# Altium integrated library Diodes - TVS.IntLib: 5379 symbols (part 120 of 122)
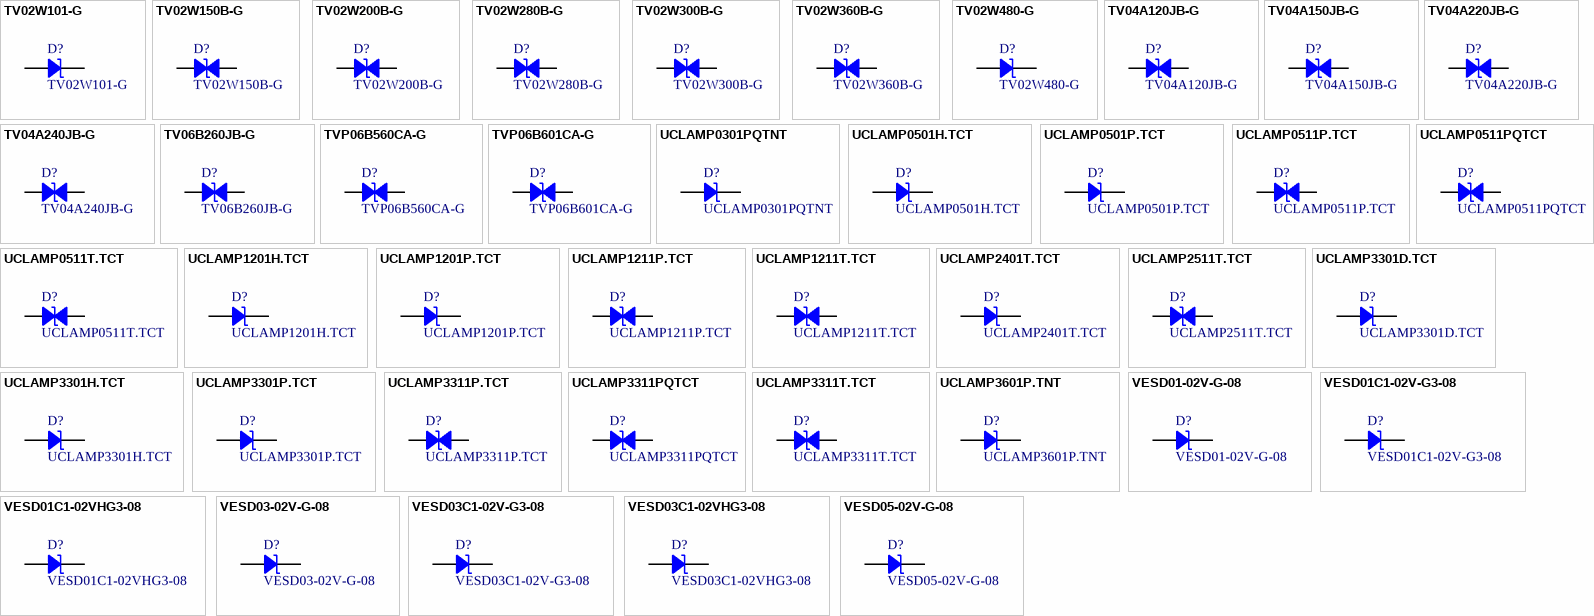
[diagram p253: symbols TV02W101-G to VESD05-02V-G-08]

## TV02W480-G
designator D?
TVS DIODE 48V 77.4V SOD123; Manufacturer: Comchip Technology; Current - Peak Pulse (10/1000µs): 2.58A; Power Line Protection: No; Power - Peak Pulse: 200W; Type: Zener; Unidirectional Channels: 1; Voltage - Breakdown (Min): 53.3V; Part Number: TV02W480-G; Applications: General Purpose; ComponentLink1Description: Datasheet; ComponentLink1URL: http://www.comchiptech.com/admin/files/product/TV02W-G series RevE.pdf; ComponentLink2Description: DigiKey Link; ComponentLink2URL: http://digikey.com/product-detail/en/comchip-technology/TV02W480-G/641-1985-1-ND/9598480; LastUpdated: 9/2/2020 1:28:32 AM; Lifecycle Status: Active; Minimum Order: 1; Mounting Type: Surface Mount; Operating Temperature: -55°C ~ 150°C (TJ); Package / Case: SOD-123; Packaging: TapeAndReel; PartId: 10022; Part Status: Active; Price: 0.10; Series: -; Supplier 1: DigiKey; Supplier Part Number 1: 641-1985-1-ND; Supplier Device Package: SOD-123; Voltage - Clamping (Max) @ Ipp: 77.4V; Voltage - Reverse Standoff (Typ): 48V
footprint SOD-123
pins: 1, 2

## TV04A120JB-G
designator D?
TVS DIODE 12V 19.9V SMA; Manufacturer: Comchip Technology; Bidirectional Channels: 1; Current - Peak Pulse (10/1000µs): 20.1A; Power Line Protection: No; Power - Peak Pulse: 400W; Type: Zener; Voltage - Breakdown (Min): 13.3V; Part Number: TV04A120JB-G; Applications: General Purpose; ComponentLink1Description: Datasheet; ComponentLink1URL: http://www.comchiptech.com/admin/files/product/TV04A-G Series RevG.pdf; ComponentLink2Description: DigiKey Link; ComponentLink2URL: http://digikey.com/product-detail/en/comchip-technology/TV04A120JB-G/641-1235-1-ND/1678653; LastUpdated: 9/2/2020 1:27:52 AM; Lifecycle Status: Active; Minimum Order: 1; Mounting Type: Surface Mount; Operating Temperature: -55°C ~ 150°C (TJ); Package / Case: DO-214AC, SMA; Packaging: TapeAndReel; PartId: 7474; Part Status: Active; Price: 0.09; Series: -; Supplier 1: DigiKey; Supplier Part Number 1: 641-1235-1-ND; Supplier Device Package: SMA (DO-214AC); Voltage - Clamping (Max) @ Ipp: 19.9V; Voltage - Reverse Standoff (Typ): 12V
footprint DO214AC SMA
pins: 1, 2

## TV04A150JB-G
designator D?
TVS DIODE 15V 24.4V SMA; Manufacturer: Comchip Technology; Bidirectional Channels: 1; Current - Peak Pulse (10/1000µs): 16.39A; Power Line Protection: No; Power - Peak Pulse: 400W; Type: Zener; Voltage - Breakdown (Min): 16.7V; Part Number: TV04A150JB-G; Applications: General Purpose; ComponentLink1Description: Datasheet; ComponentLink1URL: http://www.comchiptech.com/admin/files/product/TV04A-G Series RevG.pdf; ComponentLink2Description: DigiKey Link; ComponentLink2URL: http://digikey.com/product-detail/en/comchip-technology/TV04A150JB-G/641-1465-1-ND/3511550; LastUpdated: 9/2/2020 1:27:52 AM; Lifecycle Status: Active; Minimum Order: 1; Mounting Type: Surface Mount; Operating Temperature: -55°C ~ 150°C (TJ); Package / Case: DO-214AC, SMA; Packaging: TapeAndReel; PartId: 7449; Part Status: Active; Price: 0.10; Series: -; Supplier 1: DigiKey; Supplier Part Number 1: 641-1465-1-ND; Supplier Device Package: SMA (DO-214AC); Voltage - Clamping (Max) @ Ipp: 24.4V; Voltage - Reverse Standoff (Typ): 15V
footprint DO214AC SMA
pins: 1, 2

## TV04A220JB-G
designator D?
TVS DIODE 22V 35.5V SMA; Manufacturer: Comchip Technology; Bidirectional Channels: 1; Current - Peak Pulse (10/1000µs): 11.27A; Power Line Protection: No; Power - Peak Pulse: 400W; Type: Zener; Voltage - Breakdown (Min): 24.4V; Part Number: TV04A220JB-G; Applications: General Purpose; ComponentLink1Description: Datasheet; ComponentLink1URL: http://www.comchiptech.com/admin/files/product/TV04A-G Series RevG.pdf; ComponentLink2Description: DigiKey Link; ComponentLink2URL: http://digikey.com/product-detail/en/comchip-technology/TV04A220JB-G/641-1239-1-ND/1678657; LastUpdated: 9/2/2020 1:27:55 AM; Lifecycle Status: Active; Minimum Order: 1; Mounting Type: Surface Mount; Operating Temperature: -55°C ~ 150°C (TJ); Package / Case: DO-214AC, SMA; Packaging: TapeAndReel; PartId: 7804; Part Status: Active; Price: 0.09; Series: -; Supplier 1: DigiKey; Supplier Part Number 1: 641-1239-1-ND; Supplier Device Package: SMA (DO-214AC); Voltage - Clamping (Max) @ Ipp: 35.5V; Voltage - Reverse Standoff (Typ): 22V
footprint DO214AC SMA
pins: 1, 2

## TV04A240JB-G
designator D?
TVS DIODE 24V 38.9V SMA; Manufacturer: Comchip Technology; Bidirectional Channels: 1; Current - Peak Pulse (10/1000µs): 10.28A; Power Line Protection: No; Power - Peak Pulse: 400W; Type: Zener; Voltage - Breakdown (Min): 26.7V; Part Number: TV04A240JB-G; Applications: General Purpose; ComponentLink1Description: Datasheet; ComponentLink1URL: http://www.comchiptech.com/admin/files/product/TV04A-G Series RevG.pdf; ComponentLink2Description: DigiKey Link; ComponentLink2URL: http://digikey.com/product-detail/en/comchip-technology/TV04A240JB-G/641-1240-1-ND/1678658; LastUpdated: 9/2/2020 1:27:55 AM; Lifecycle Status: Active; Minimum Order: 1; Mounting Type: Surface Mount; Operating Temperature: -55°C ~ 150°C (TJ); Package / Case: DO-214AC, SMA; Packaging: TapeAndReel; PartId: 7772; Part Status: Active; Price: 0.10; Series: -; Supplier 1: DigiKey; Supplier Part Number 1: 641-1240-1-ND; Supplier Device Package: SMA (DO-214AC); Voltage - Clamping (Max) @ Ipp: 38.9V; Voltage - Reverse Standoff (Typ): 24V
footprint DO214AC SMA
pins: 1, 2

## TV06B260JB-G
designator D?
TVS DIODE 26V 42.1V SMB; Manufacturer: Comchip Technology; Bidirectional Channels: 1; Current - Peak Pulse (10/1000µs): 14.25A; Power Line Protection: No; Power - Peak Pulse: 600W; Type: Zener; Voltage - Breakdown (Min): 28.9V; Part Number: TV06B260JB-G; Applications: General Purpose; ComponentLink1Description: Datasheet; ComponentLink1URL: http://www.comchiptech.com/admin/files/product/TV06B-G Series RevG.pdf; ComponentLink2Description: DigiKey Link; ComponentLink2URL: http://digikey.com/product-detail/en/comchip-technology/TV06B260JB-G/641-1251-1-ND/1678669; LastUpdated: 9/2/2020 1:28:15 AM; Lifecycle Status: Active; Minimum Order: 1; Mounting Type: Surface Mount; Package / Case: DO-214AA, SMB; Packaging: TapeAndReel; PartId: 8840; Part Status: Active; Price: 0.15; Series: -; Supplier 1: DigiKey; Supplier Part Number 1: 641-1251-1-ND; Supplier Device Package: DO-214AA (SMB); Voltage - Clamping (Max) @ Ipp: 42.1V; Voltage - Reverse Standoff (Typ): 26V
footprint DO214AA SMB
pins: 1, 2

## TVP06B560CA-G
designator D?
TVS DIODE SMC; Manufacturer: Comchip Technology; Bidirectional Channels: 1; Power Line Protection: No; Power - Peak Pulse: 600W; Type: Zener; Part Number: TVP06B560CA-G; Applications: General Purpose; ComponentLink1Description: Datasheet; ComponentLink1URL: http://www.comchiptech.com/admin/files/product/TVP06B-G Series RevC.pdf; ComponentLink2Description: DigiKey Link; ComponentLink2URL: http://digikey.com/product-detail/en/comchip-technology/TVP06B560CA-G/641-1863-1-ND/7062355; LastUpdated: 9/2/2020 1:28:20 AM; Lifecycle Status: Active; Minimum Order: 1; Mounting Type: Surface Mount; Operating Temperature: -55°C ~ 150°C (TJ); Package / Case: DO-214AA, SMB; Packaging: TapeAndReel; PartId: 9423; Part Status: Active; Price: 0.16; Series: -; Supplier 1: DigiKey; Supplier Part Number 1: 641-1863-1-ND; Supplier Device Package: DO-214AA (SMB)
footprint DO214AA SMB
pins: 1, 2

## TVP06B601CA-G
designator D?
TVS DIODE 513V 828V SMB; Manufacturer: Comchip Technology; Bidirectional Channels: 1; Current - Peak Pulse (10/1000µs): 720mA; Power Line Protection: No; Power - Peak Pulse: 600W; Type: Zener; Voltage - Breakdown (Min): 570V; Part Number: TVP06B601CA-G; Applications: General Purpose; ComponentLink1Description: Datasheet; ComponentLink1URL: http://www.comchiptech.com/admin/files/product/TVP06B-G Series RevC.pdf; ComponentLink2Description: DigiKey Link; ComponentLink2URL: http://digikey.com/product-detail/en/comchip-technology/TVP06B601CA-G/641-2009-1-ND/9598497; LastUpdated: 9/2/2020 1:28:18 AM; Lifecycle Status: Active; Minimum Order: 1; Mounting Type: Surface Mount; Operating Temperature: -55°C ~ 150°C (TJ); Package / Case: DO-214AA, SMB; Packaging: TapeAndReel; PartId: 9143; Part Status: Active; Price: 0.27; Series: -; Supplier 1: DigiKey; Supplier Part Number 1: 641-2009-1-ND; Supplier Device Package: DO-214AA (SMB); Voltage - Clamping (Max) @ Ipp: 828V; Voltage - Reverse Standoff (Typ): 513V
footprint DO214AA SMB
pins: 1, 2

## UCLAMP0301PQTNT
designator D?
TVS DIODE 3V 8V SLP1006P2; Manufacturer: Semtech Corporation; Capacitance @ Frequency: 25pF @ 1MHz; Current - Peak Pulse (10/1000µs): 5A (8/20µs); Power Line Protection: No; Power - Peak Pulse: 40W; Type: Zener; Unidirectional Channels: 1; Voltage - Breakdown (Min): 3.1V; Voltage - Reverse Standoff (Typ): 3V (Max); Part Number: UCLAMP0301PQTNT; Applications: Automotive; ComponentLink1Description: Datasheet; ComponentLink1URL: https://www.semtech.com/uploads/documents/uclamp0301pq.pdf; ComponentLink2Description: DigiKey Link; ComponentLink2URL: http://digikey.com/product-detail/en/semtech-corporation/UCLAMP0301PQTNT/UCLAMP0301PQTNTCT-ND/5321365; Device Package: 0402 (1006 Metric); LastUpdated: 9/2/2020 1:28:45 AM; Lifecycle Status: Active; Minimum Order: 1; Mounting Type: Surface Mount; Operating Temperature: -40°C ~ 85°C (TJ); Package / Case: 0402 (1006 Metric); Packaging: TapeAndReel; PartId: 10368; Part Status: Active; Price: 0.23; Series: Automotive, AEC-Q100, uClamp®; Supplier 1: DigiKey; Supplier Part Number 1: UCLAMP0301PQTNTCT-ND; Supplier Device Package: SLP1006P2; Voltage - Clamping (Max) @ Ipp: 8V
footprint 0402
pins: 1, 2

## UCLAMP0501H.TCT
designator D?
TVS DIODE 5V 12.5V SOD523; Manufacturer: Semtech Corporation; Capacitance @ Frequency: 160pF @ 1MHz; Current - Peak Pulse (10/1000µs): 16A (8/20µs); Power Line Protection: No; Power - Peak Pulse: 240W; Type: Zener; Unidirectional Channels: 1; Voltage - Breakdown (Min): 6V; Voltage - Reverse Standoff (Typ): 5V (Max); Part Number: UCLAMP0501H.TCT; Applications: General Purpose; ComponentLink1Description: Datasheet; ComponentLink1URL: https://www.semtech.com/uploads/documents/uclamp0501h.pdf; ComponentLink2Description: DigiKey Link; ComponentLink2URL: http://digikey.com/product-detail/en/semtech-corporation/UCLAMP0501H.TCT/UCLAMP0501HCT-ND/1000992; LastUpdated: 9/2/2020 1:28:24 AM; Lifecycle Status: Active; Minimum Order: 1; Mounting Type: Surface Mount; Operating Temperature: -55°C ~ 125°C (TJ); Package / Case: SC-79, SOD-523; Packaging: TapeAndReel; PartId: 9758; Part Status: Active; Price: 0.23; Series: uClamp®; Supplier 1: DigiKey; Supplier Part Number 1: UCLAMP0501HCT-ND; Supplier Device Package: SOD-523; Voltage - Clamping (Max) @ Ipp: 12.5V
footprint SOD523F
pins: 1, 2

## UCLAMP0501P.TCT
designator D?
TVS DIODE 5V 12.5V SLP1006P2; Manufacturer: Semtech Corporation; Capacitance @ Frequency: 160pF @ 1MHz; Current - Peak Pulse (10/1000µs): 16A (8/20µs); Power Line Protection: No; Power - Peak Pulse: 200W; Type: Zener; Unidirectional Channels: 1; Voltage - Breakdown (Min): 6V; Voltage - Reverse Standoff (Typ): 5V (Max); Part Number: UCLAMP0501P.TCT; Applications: General Purpose; ComponentLink1Description: Datasheet; ComponentLink1URL: https://www.semtech.com/uploads/documents/uclamp0501p.pdf; ComponentLink2Description: DigiKey Link; ComponentLink2URL: http://digikey.com/product-detail/en/semtech-corporation/UCLAMP0501P.TCT/UCLAMP0501P.TCTCT-ND/5113772; Device Package: 0402 (1006 Metric); LastUpdated: 9/2/2020 1:28:45 AM; Lifecycle Status: Active; Minimum Order: 1; Mounting Type: Surface Mount; Operating Temperature: -55°C ~ 125°C (TJ); Package / Case: 0402 (1006 Metric); Packaging: TapeAndReel; PartId: 10386; Part Status: Active; Price: 0.23; Series: uClamp®; Supplier 1: DigiKey; Supplier Part Number 1: UCLAMP0501P.TCTCT-ND; Supplier Device Package: SLP1006P2; Voltage - Clamping (Max) @ Ipp: 12.5V
footprint 0402
pins: 1, 2

## UCLAMP0511P.TCT
designator D?
TVS DIODE 5V 14V SLP1006P2; Manufacturer: Semtech Corporation; Bidirectional Channels: 1; Capacitance @ Frequency: 75pF @ 1MHz; Current - Peak Pulse (10/1000µs): 12A (8/20µs); Power Line Protection: No; Power - Peak Pulse: 170W; Type: Zener; Voltage - Breakdown (Min): 6V; Voltage - Reverse Standoff (Typ): 5V (Max); Part Number: UCLAMP0511P.TCT; Applications: General Purpose; ComponentLink1Description: Datasheet; ComponentLink1URL: https://www.semtech.com/uploads/documents/uclamp0511p.pdf; ComponentLink2Description: DigiKey Link; ComponentLink2URL: http://digikey.com/product-detail/en/semtech-corporation/UCLAMP0511P.TCT/UCLAMP0511PCT-ND/1834047; Device Package: 0402 (1006 Metric); LastUpdated: 9/2/2020 1:28:48 AM; Lifecycle Status: Active; Minimum Order: 1; Mounting Type: Surface Mount; Operating Temperature: -55°C ~ 125°C (TJ); Package / Case: 0402 (1006 Metric); Packaging: TapeAndReel; PartId: 10412; Part Status: Active; Price: 0.30; Series: uClamp®; Supplier 1: DigiKey; Supplier Part Number 1: UCLAMP0511PCT-ND; Supplier Device Package: SLP1006P2; Voltage - Clamping (Max) @ Ipp: 14V
footprint 0402
pins: 1, 2

## UCLAMP0511PQTCT
designator D?
TVS DIODE 5V 14V SLP1006P2; Manufacturer: Semtech Corporation; Bidirectional Channels: 1; Capacitance @ Frequency: 75pF @ 1MHz; Current - Peak Pulse (10/1000µs): 12A (8/20µs); Power Line Protection: No; Power - Peak Pulse: 170W; Type: Zener; Voltage - Breakdown (Min): 6V; Voltage - Reverse Standoff (Typ): 5V (Max); Part Number: UCLAMP0511PQTCT; Applications: Automotive; ComponentLink1Description: Datasheet; ComponentLink1URL: https://www.semtech.com/uploads/documents/uclamp0511pq.pdf; ComponentLink2Description: DigiKey Link; ComponentLink2URL: http://digikey.com/product-detail/en/semtech-corporation/UCLAMP0511PQTCT/UCLAMP0511PQTCTCT-ND/4626701; Device Package: 0402 (1006 Metric); LastUpdated: 9/2/2020 1:28:49 AM; Lifecycle Status: Active; Minimum Order: 1; Mounting Type: Surface Mount; Operating Temperature: -40°C ~ 125°C (TJ); Package / Case: 0402 (1006 Metric); Packaging: TapeAndReel; PartId: 10497; Part Status: Active; Price: 0.36; Series: Automotive, AEC-Q100, uClamp®; Supplier 1: DigiKey; Supplier Part Number 1: UCLAMP0511PQTCTCT-ND; Supplier Device Package: SLP1006P2; Voltage - Clamping (Max) @ Ipp: 14V
footprint 0402
pins: 1, 2

## UCLAMP0511T.TCT
designator D?
TVS DIODE 5V 15V SLP1006P2T; Manufacturer: Semtech Corporation; Bidirectional Channels: 1; Capacitance @ Frequency: 4pF @ 1MHz; Current - Peak Pulse (10/1000µs): 2A (8/20µs); Power Line Protection: No; Type: Zener; Voltage - Breakdown (Min): 6V; Voltage - Reverse Standoff (Typ): 5V (Max); Part Number: UCLAMP0511T.TCT; Applications: General Purpose; ComponentLink1Description: Datasheet; ComponentLink1URL: https://www.semtech.com/uploads/documents/uclamp0511t.pdf; ComponentLink2Description: DigiKey Link; ComponentLink2URL: http://digikey.com/product-detail/en/semtech-corporation/UCLAMP0511T.TCT/UCLAMP0511TTCTCT-ND/4626702; Device Package: 0402 (1006 Metric); LastUpdated: 9/2/2020 1:28:48 AM; Lifecycle Status: Active; Minimum Order: 1; Mounting Type: Surface Mount; Operating Temperature: -55°C ~ 125°C (TJ); Package / Case: 0402 (1006 Metric); Packaging: TapeAndReel; PartId: 10416; Part Status: Active; Price: 0.27; Series: uClamp®; Supplier 1: DigiKey; Supplier Part Number 1: UCLAMP0511TTCTCT-ND; Supplier Device Package: SLP1006P2T; Voltage - Clamping (Max) @ Ipp: 15V
footprint 0402
pins: 1, 2

## UCLAMP1201H.TCT
designator D?
TVS DIODE 12V 25V SOD523; Manufacturer: Semtech Corporation; Capacitance @ Frequency: 60pF @ 1MHz; Current - Peak Pulse (10/1000µs): 8A (8/20µs); Power Line Protection: No; Power - Peak Pulse: 200W; Type: Zener; Unidirectional Channels: 1; Voltage - Breakdown (Min): 13.3V; Voltage - Reverse Standoff (Typ): 12V (Max); Part Number: UCLAMP1201H.TCT; Applications: General Purpose; ComponentLink1Description: Datasheet; ComponentLink1URL: https://www.semtech.com/uploads/documents/uclamp1201h.pdf; ComponentLink2Description: DigiKey Link; ComponentLink2URL: http://digikey.com/product-detail/en/semtech-corporation/UCLAMP1201H.TCT/UCLAMP1201HCT-ND/1249509; LastUpdated: 9/2/2020 1:28:24 AM; Lifecycle Status: Active; Minimum Order: 1; Mounting Type: Surface Mount; Operating Temperature: -55°C ~ 125°C (TJ); Package / Case: SC-79, SOD-523; Packaging: TapeAndReel; PartId: 9759; Part Status: Active; Price: 0.23; Series: uClamp®; Supplier 1: DigiKey; Supplier Part Number 1: UCLAMP1201HCT-ND; Supplier Device Package: SOD-523; Voltage - Clamping (Max) @ Ipp: 25V
footprint SOD523F
pins: 1, 2

## UCLAMP1201P.TCT
designator D?
TVS DIODE 12V 25V SLP1006P2; Manufacturer: Semtech Corporation; Capacitance @ Frequency: 60pF @ 1MHz; Current - Peak Pulse (10/1000µs): 8A (8/20µs); Power Line Protection: No; Power - Peak Pulse: 200W; Type: Zener; Unidirectional Channels: 1; Voltage - Breakdown (Min): 13.3V; Voltage - Reverse Standoff (Typ): 12V (Max); Part Number: UCLAMP1201P.TCT; Applications: General Purpose; ComponentLink1Description: Datasheet; ComponentLink1URL: https://www.semtech.com/uploads/documents/uclamp1201p.pdf; ComponentLink2Description: DigiKey Link; ComponentLink2URL: http://digikey.com/product-detail/en/semtech-corporation/UCLAMP1201P.TCT/UCLAMP1201PCT-ND/1972100; Device Package: 0402 (1006 Metric); LastUpdated: 9/2/2020 1:28:45 AM; Lifecycle Status: Active; Minimum Order: 1; Mounting Type: Surface Mount; Operating Temperature: -55°C ~ 125°C (TJ); Package / Case: 0402 (1006 Metric); Packaging: TapeAndReel; PartId: 10385; Part Status: Active; Price: 0.23; Series: uClamp®; Supplier 1: DigiKey; Supplier Part Number 1: UCLAMP1201PCT-ND; Supplier Device Package: SLP1006P2; Voltage - Clamping (Max) @ Ipp: 25V
footprint 0402
pins: 1, 2

## UCLAMP1211P.TCT
designator D?
TVS DIODE 12V 28.5V SLP1006P2; Manufacturer: Semtech Corporation; Bidirectional Channels: 1; Capacitance @ Frequency: 25pF @ 1MHz; Current - Peak Pulse (10/1000µs): 7A (8/20µs); Power Line Protection: No; Power - Peak Pulse: 200W; Type: Zener; Voltage - Breakdown (Min): 13.3V; Voltage - Reverse Standoff (Typ): 12V (Max); Part Number: UCLAMP1211P.TCT; Applications: General Purpose; ComponentLink1Description: Datasheet; ComponentLink1URL: https://www.semtech.com/uploads/documents/uclamp1211p.pdf; ComponentLink2Description: DigiKey Link; ComponentLink2URL: http://digikey.com/product-detail/en/semtech-corporation/UCLAMP1211P.TCT/UCLAMP1211PCT-ND/1834048; Device Package: 0402 (1006 Metric); LastUpdated: 9/2/2020 1:28:48 AM; Lifecycle Status: Active; Minimum Order: 1; Mounting Type: Surface Mount; Operating Temperature: -55°C ~ 125°C (TJ); Package / Case: 0402 (1006 Metric); Packaging: TapeAndReel; PartId: 10411; Part Status: Active; Price: 0.30; Series: uClamp®; Supplier 1: DigiKey; Supplier Part Number 1: UCLAMP1211PCT-ND; Supplier Device Package: SLP1006P2; Voltage - Clamping (Max) @ Ipp: 28.5V
footprint 0402
pins: 1, 2

## UCLAMP1211T.TCT
designator D?
TVS DIODE 12V 27V SLP1006P2T; Manufacturer: Semtech Corporation; Bidirectional Channels: 1; Capacitance @ Frequency: 3pF @ 1MHz; Current - Peak Pulse (10/1000µs): 1A (8/20µs); Power Line Protection: No; Type: Zener; Voltage - Breakdown (Min): 13.3V; Voltage - Reverse Standoff (Typ): 12V (Max); Part Number: UCLAMP1211T.TCT; Applications: General Purpose; ComponentLink1Description: Datasheet; ComponentLink1URL: https://www.semtech.com/uploads/documents/uclamp1211t.pdf; ComponentLink2Description: DigiKey Link; ComponentLink2URL: http://digikey.com/product-detail/en/semtech-corporation/UCLAMP1211T.TCT/UCLAMP1211T.TCTCT-ND/5015720; Device Package: 0402 (1006 Metric); LastUpdated: 9/2/2020 1:28:48 AM; Lifecycle Status: Active; Minimum Order: 1; Mounting Type: Surface Mount; Operating Temperature: -55°C ~ 125°C (TJ); Package / Case: 0402 (1006 Metric); Packaging: TapeAndReel; PartId: 10438; Part Status: Active; Price: 0.27; Series: uClamp®; Supplier 1: DigiKey; Supplier Part Number 1: UCLAMP1211T.TCTCT-ND; Supplier Device Package: SLP1006P2T; Voltage - Clamping (Max) @ Ipp: 27V
footprint 0402
pins: 1, 2

## UCLAMP2401T.TCT
designator D?
TVS DIODE 24V 50V 0402; Manufacturer: Semtech Corporation; Capacitance @ Frequency: 50pF @ 1MHz; Current - Peak Pulse (10/1000µs): 3A (8/20µs); Power Line Protection: No; Power - Peak Pulse: 150W; Type: Zener; Unidirectional Channels: 1; Voltage - Breakdown (Min): 27V; Voltage - Reverse Standoff (Typ): 24V (Max); Part Number: UCLAMP2401T.TCT; Applications: General Purpose; ComponentLink1Description: Datasheet; ComponentLink1URL: https://www.semtech.com/uploads/documents/uclamp2401t.pdf; ComponentLink2Description: DigiKey Link; ComponentLink2URL: http://digikey.com/product-detail/en/semtech-corporation/UCLAMP2401T.TCT/UCLAMP2401TCT-ND/2242968; Device Package: 0402 (1005 Metric); LastUpdated: 9/2/2020 1:28:45 AM; Lifecycle Status: Active; Minimum Order: 1; Mounting Type: Surface Mount; Operating Temperature: -55°C ~ 125°C (TJ); Package / Case: 0402 (1005 Metric); Packaging: TapeAndReel; PartId: 10393; Part Status: Active; Price: 0.23; Series: uClamp®; Supplier 1: DigiKey; Supplier Part Number 1: UCLAMP2401TCT-ND; Supplier Device Package: 0402; Voltage - Clamping (Max) @ Ipp: 50V
footprint 0402
pins: 1, 2

## UCLAMP2511T.TCT
designator D?
TVS DIODE 2.5V 8V SLP1006P2T; Manufacturer: Semtech Corporation; Bidirectional Channels: 1; Capacitance @ Frequency: 6pF @ 1MHz; Current - Peak Pulse (10/1000µs): 5A (8/20µs); Power Line Protection: No; Power - Peak Pulse: 40W; Type: Zener; Voltage - Breakdown (Min): 2.7V; Voltage - Reverse Standoff (Typ): 2.5V (Max); Part Number: UCLAMP2511T.TCT; Applications: General Purpose; ComponentLink1Description: Datasheet; ComponentLink1URL: //media.digikey.com/pdf/Data%20Sheets/Semtech%20PDFs/uClamp2511T_10-9-09.pdf; ComponentLink2Description: DigiKey Link; ComponentLink2URL: http://digikey.com/product-detail/en/semtech-corporation/UCLAMP2511T.TCT/UCLAMP2511TTCTCT-ND/4626704; Device Package: 0402 (1006 Metric); LastUpdated: 9/2/2020 1:28:48 AM; Lifecycle Status: Active; Minimum Order: 1; Mounting Type: Surface Mount; Operating Temperature: -40°C ~ 85°C (TJ); Package / Case: 0402 (1006 Metric); Packaging: TapeAndReel; PartId: 10410; Part Status: Active; Price: 0.30; Series: uClamp®; Supplier 1: DigiKey; Supplier Part Number 1: UCLAMP2511TTCTCT-ND; Supplier Device Package: SLP1006P2T; Voltage - Clamping (Max) @ Ipp: 8V
footprint 0402
pins: 1, 2

## UCLAMP3301D.TCT
designator D?
TVS DIODE 3.3V 9.5V SOD323; Manufacturer: Semtech Corporation; Capacitance @ Frequency: 50pF @ 1MHz; Current - Peak Pulse (10/1000µs): 10A (8/20µs); Power Line Protection: No; Power - Peak Pulse: 100W; Type: Zener; Unidirectional Channels: 1; Voltage - Breakdown (Min): 3.5V; Voltage - Reverse Standoff (Typ): 3.3V (Max); Part Number: UCLAMP3301D.TCT; Applications: General Purpose; ComponentLink1Description: Datasheet; ComponentLink1URL: https://www.semtech.com/uploads/documents/uclamp3301d.pdf; ComponentLink2Description: DigiKey Link; ComponentLink2URL: http://digikey.com/product-detail/en/semtech-corporation/UCLAMP3301D.TCT/UCLAMP3301DCT-ND/1000994; LastUpdated: 9/2/2020 1:28:26 AM; Lifecycle Status: Active; Minimum Order: 1; Mounting Type: Surface Mount; Operating Temperature: -55°C ~ 125°C (TJ); Package / Case: SC-76, SOD-323; Packaging: TapeAndReel; PartId: 9837; Part Status: Active; Price: 0.30; Series: uClamp®; Supplier 1: DigiKey; Supplier Part Number 1: UCLAMP3301DCT-ND; Supplier Device Package: SOD-323; Voltage - Clamping (Max) @ Ipp: 9.5V
footprint SOD323
pins: 1, 2

## UCLAMP3301H.TCT
designator D?
TVS DIODE 3.3V 8V SOD523; Manufacturer: Semtech Corporation; Capacitance @ Frequency: 25pF @ 1MHz; Current - Peak Pulse (10/1000µs): 5A (8/20µs); Power Line Protection: No; Power - Peak Pulse: 40W; Type: Zener; Unidirectional Channels: 1; Voltage - Breakdown (Min): 3.5V; Voltage - Reverse Standoff (Typ): 3.3V (Max); Part Number: UCLAMP3301H.TCT; Applications: General Purpose; ComponentLink1Description: Datasheet; ComponentLink1URL: https://www.semtech.com/uploads/documents/uclamp3301h.pdf; ComponentLink2Description: DigiKey Link; ComponentLink2URL: http://digikey.com/product-detail/en/semtech-corporation/UCLAMP3301H.TCT/UCLAMP3301HCT-ND/1000995; LastUpdated: 9/2/2020 1:28:24 AM; Lifecycle Status: Active; Minimum Order: 1; Mounting Type: Surface Mount; Operating Temperature: -55°C ~ 125°C (TJ); Package / Case: SC-79, SOD-523; Packaging: TapeAndReel; PartId: 9757; Part Status: Active; Price: 0.26; Series: uClamp®; Supplier 1: DigiKey; Supplier Part Number 1: UCLAMP3301HCT-ND; Supplier Device Package: SOD-523; Voltage - Clamping (Max) @ Ipp: 8V
footprint SOD523F
pins: 1, 2

## UCLAMP3301P.TCT
designator D?
TVS DIODE 3.3V 8V SLP1006P2; Manufacturer: Semtech Corporation; Capacitance @ Frequency: 25pF @ 1MHz; Current - Peak Pulse (10/1000µs): 5A (8/20µs); Power Line Protection: No; Power - Peak Pulse: 40W; Type: Zener; Unidirectional Channels: 1; Voltage - Breakdown (Min): 3.5V; Voltage - Reverse Standoff (Typ): 3.3V (Max); Part Number: UCLAMP3301P.TCT; Applications: General Purpose; ComponentLink1Description: Datasheet; ComponentLink1URL: https://www.semtech.com/uploads/documents/uclamp3301p.pdf; ComponentLink2Description: DigiKey Link; ComponentLink2URL: http://digikey.com/product-detail/en/semtech-corporation/UCLAMP3301P.TCT/UCLAMP3301P.TCT-ND/5052050; Device Package: 0402 (1006 Metric); LastUpdated: 9/2/2020 1:28:45 AM; Lifecycle Status: Active; Minimum Order: 1; Mounting Type: Surface Mount; Operating Temperature: -40°C ~ 85°C (TA); Package / Case: 0402 (1006 Metric); Packaging: TapeAndReel; PartId: 10367; Part Status: Active; Price: 0.27; Series: uClamp®; Supplier 1: DigiKey; Supplier Part Number 1: UCLAMP3301P.TCT-ND; Supplier Device Package: SLP1006P2; Voltage - Clamping (Max) @ Ipp: 8V
footprint 0402
pins: 1, 2

## UCLAMP3311P.TCT
designator D?
TVS DIODE 3.3V 18V SLP1006P2; Manufacturer: Semtech Corporation; Bidirectional Channels: 1; Capacitance @ Frequency: 12pF @ 1MHz; Current - Peak Pulse (10/1000µs): 5A (8/20µs); Power Line Protection: No; Power - Peak Pulse: 90W; Type: Zener; Voltage - Breakdown (Min): 3.5V; Voltage - Reverse Standoff (Typ): 3.3V (Max); Part Number: UCLAMP3311P.TCT; Applications: General Purpose; ComponentLink1Description: Datasheet; ComponentLink1URL: https://www.semtech.com/uploads/documents/uclamp3311p.pdf; ComponentLink2Description: DigiKey Link; ComponentLink2URL: http://digikey.com/product-detail/en/semtech-corporation/UCLAMP3311P.TCT/UCLAMP3311PCT-ND/1834049; Device Package: 0402 (1006 Metric); LastUpdated: 9/2/2020 1:28:48 AM; Lifecycle Status: Active; Minimum Order: 1; Mounting Type: Surface Mount; Operating Temperature: -40°C ~ 85°C (TJ); Package / Case: 0402 (1006 Metric); Packaging: TapeAndReel; PartId: 10413; Part Status: Active; Price: 0.29; Series: uClamp®; Supplier 1: DigiKey; Supplier Part Number 1: UCLAMP3311PCT-ND; Supplier Device Package: SLP1006P2; Voltage - Clamping (Max) @ Ipp: 18V
footprint 0402
pins: 1, 2

## UCLAMP3311PQTCT
designator D?
TVS DIODE 3.3V 18V SLP1006P2; Manufacturer: Semtech Corporation; Bidirectional Channels: 1; Capacitance @ Frequency: 12pF @ 1MHz; Current - Peak Pulse (10/1000µs): 5A (8/20µs); Power Line Protection: No; Power - Peak Pulse: 90W; Type: Zener; Voltage - Breakdown (Min): 3.5V; Voltage - Reverse Standoff (Typ): 3.3V (Max); Part Number: UCLAMP3311PQTCT; Applications: Automotive, Ethernet; ComponentLink1Description: Datasheet; ComponentLink1URL: https://semtech.my.salesforce.com/sfc/p/#E0000000JelG/a/2R0000001NG1/lOpZTAKa_CXUutmayo7ywanTs4KkyNEXKxEdsuxE7bg; ComponentLink2Description: DigiKey Link; ComponentLink2URL: http://digikey.com/product-detail/en/semtech-corporation/UCLAMP3311PQTCT/UCLAMP3311PQTCTCT-ND/4626706; Device Package: 0402 (1006 Metric); LastUpdated: 9/2/2020 1:28:49 AM; Lifecycle Status: Active; Minimum Order: 1; Mounting Type: Surface Mount; Operating Temperature: -40°C ~ 85°C (TJ); Package / Case: 0402 (1006 Metric); Packaging: TapeAndReel; PartId: 10487; Part Status: Active; Price: 0.41; Series: Automotive, AEC-Q100, uClamp®; Supplier 1: DigiKey; Supplier Part Number 1: UCLAMP3311PQTCTCT-ND; Supplier Device Package: SLP1006P2; Voltage - Clamping (Max) @ Ipp: 18V
footprint 0402
pins: 1, 2

## UCLAMP3311T.TCT
designator D?
TVS DIODE 3.3V 8V SLP1006P2T; Manufacturer: Semtech Corporation; Bidirectional Channels: 1; Capacitance @ Frequency: 5pF @ 1MHz; Current - Peak Pulse (10/1000µs): 5A (8/20µs); Power Line Protection: No; Power - Peak Pulse: 40W; Type: Zener; Voltage - Breakdown (Min): 3.5V; Voltage - Reverse Standoff (Typ): 3.3V (Max); Part Number: UCLAMP3311T.TCT; Applications: General Purpose; ComponentLink1Description: Datasheet; ComponentLink1URL: https://www.semtech.com/uploads/documents/uclamp3311t.pdf; ComponentLink2Description: DigiKey Link; ComponentLink2URL: http://digikey.com/product-detail/en/semtech-corporation/UCLAMP3311T.TCT/UCLAMP3311TTCTCT-ND/4626707; Device Package: 0402 (1006 Metric); LastUpdated: 9/2/2020 1:28:48 AM; Lifecycle Status: Active; Minimum Order: 1; Mounting Type: Surface Mount; Operating Temperature: -40°C ~ 85°C (TJ); Package / Case: 0402 (1006 Metric); Packaging: TapeAndReel; PartId: 10415; Part Status: Active; Price: 0.27; Series: uClamp®; Supplier 1: DigiKey; Supplier Part Number 1: UCLAMP3311TTCTCT-ND; Supplier Device Package: SLP1006P2T; Voltage - Clamping (Max) @ Ipp: 8V
footprint 0402
pins: 1, 2

## UCLAMP3601P.TNT
designator D?
TVS DIODE 33V 60V SLP1006P2; Manufacturer: Semtech Corporation; Capacitance @ Frequency: 25pF @ 1MHz; Current - Peak Pulse (10/1000µs): 2A (1.2/50µs); Power Line Protection: No; Power - Peak Pulse: 125W; Type: Zener; Unidirectional Channels: 1; Voltage - Breakdown (Min): 36V; Voltage - Reverse Standoff (Typ): 33V (Max); Part Number: UCLAMP3601P.TNT; Applications: Automotive; ComponentLink1Description: Datasheet; ComponentLink1URL: https://www.semtech.com/uploads/documents/uclamp3601p.pdf; ComponentLink2Description: DigiKey Link; ComponentLink2URL: http://digikey.com/product-detail/en/semtech-corporation/UCLAMP3601P.TNT/UCLAMP3601PTNTCT-ND/4626709; Device Package: 0402 (1006 Metric); LastUpdated: 9/2/2020 1:28:45 AM; Lifecycle Status: Active; Minimum Order: 1; Mounting Type: Surface Mount; Operating Temperature: -40°C ~ 125°C (TJ); Package / Case: 0402 (1006 Metric); Packaging: TapeAndReel; PartId: 10397; Part Status: Active; Price: 0.36; Series: Automotive, AEC-Q100, uClamp®; Supplier 1: DigiKey; Supplier Part Number 1: UCLAMP3601PTNTCT-ND; Supplier Device Package: SLP1006P2; Voltage - Clamping (Max) @ Ipp: 60V
footprint 0402
pins: 1, 2

## VESD01-02V-G-08
designator D?
TVS DIODE 1V 9V SOD523; Manufacturer: Vishay Semiconductor Diodes Division; Capacitance @ Frequency: 180pF @ 1MHz; Current - Peak Pulse (10/1000µs): 7A (8/20µs); Power Line Protection: No; Power - Peak Pulse: 63W; Type: Zener; Unidirectional Channels: 1; Voltage - Breakdown (Min): 1.5V; Voltage - Clamping (Max) @ Ipp: 9V (Typ); Voltage - Reverse Standoff (Typ): 1V (Max); Part Number: VESD01-02V-G-08; Applications: General Purpose; ComponentLink1Description: Datasheet; ComponentLink1URL: https://www.vishay.com/docs/83367/vesdxx02v.pdf; ComponentLink2Description: DigiKey Link; ComponentLink2URL: http://digikey.com/product-detail/en/vishay-semiconductor-diodes-division/VESD01-02V-G-08/VESD01-02V-G-08CT-ND/2658775; LastUpdated: 9/2/2020 1:28:24 AM; Lifecycle Status: Active; Minimum Order: 1; Mounting Type: Surface Mount; Operating Temperature: -40°C ~ 125°C (TJ); Package / Case: SC-79, SOD-523; Packaging: TapeAndReel; PartId: 9733; Part Status: Active; Price: 0.08; Series: -; Supplier 1: DigiKey; Supplier Part Number 1: VESD01-02V-G-08CT-ND; Supplier Device Package: SOD-523
footprint SOD523F
pins: 1, 2

## VESD01C1-02V-G3-08
designator D?
ESD PROTECTION DIODE SOD-523; Manufacturer: Vishay Semiconductor Diodes Division; Capacitance @ Frequency: 192pF @ 1MHz; Current - Peak Pulse (10/1000µs): 14.6A (8/20µs); Power Line Protection: No; Power - Peak Pulse: 100W; Type: Zener; Unidirectional Channels: 1; Voltage - Breakdown (Min): 2.5V; Voltage - Clamping (Max) @ Ipp: 6.9V; Voltage - Reverse Standoff (Typ): 1V (Max); Part Number: VESD01C1-02V-G3-08; Applications: Automotive; ComponentLink1Description: Datasheet; ComponentLink1URL: http://www.vishay.com/docs/86130/vesd01c1-02vtovesd33c1-02v.pdf; ComponentLink2Description: DigiKey Link; ComponentLink2URL: http://digikey.com/product-detail/en/vishay-semiconductor-diodes-division/VESD01C1-02V-G3-08/VESD01C1-02V-G3-08GICT-ND/9948014; LastUpdated: 9/2/2020 1:28:24 AM; Lifecycle Status: Active; Minimum Order: 1; Mounting Type: Surface Mount; Operating Temperature: -55°C ~ 150°C (TJ); Package / Case: SC-79, SOD-523; Packaging: TapeAndReel; PartId: 9729; Part Status: Active; Price: 0.06; Series: Automotive, AEC-Q101; Supplier 1: DigiKey; Supplier Part Number 1: VESD01C1-02V-G3-08GICT-ND; Supplier Device Package: SOD-523
footprint SOD523F
pins: 1, 2

## VESD01C1-02VHG3-08
designator D?
ESD PROTECTION DIODE SOD-523; Manufacturer: Vishay Semiconductor Diodes Division; Capacitance @ Frequency: 192pF @ 1MHz; Current - Peak Pulse (10/1000µs): 14.6A (8/20µs); Power Line Protection: No; Power - Peak Pulse: 100W; Type: Zener; Unidirectional Channels: 1; Voltage - Breakdown (Min): 2.5V; Voltage - Clamping (Max) @ Ipp: 6.9V; Voltage - Reverse Standoff (Typ): 1V (Max); Part Number: VESD01C1-02VHG3-08; Applications: Automotive; ComponentLink1Description: Datasheet; ComponentLink1URL: http://www.vishay.com/docs/86130/vesd01c1-02vtovesd33c1-02v.pdf; ComponentLink2Description: DigiKey Link; ComponentLink2URL: http://digikey.com/product-detail/en/vishay-semiconductor-diodes-division/VESD01C1-02VHG3-08/VESD01C1-02VHG3-08GICT-ND/9948024; LastUpdated: 9/2/2020 1:28:24 AM; Lifecycle Status: Active; Minimum Order: 1; Mounting Type: Surface Mount; Operating Temperature: -55°C ~ 150°C (TJ); Package / Case: SC-79, SOD-523; Packaging: TapeAndReel; PartId: 9736; Part Status: Active; Price: 0.06; Series: Automotive, AEC-Q101; Supplier 1: DigiKey; Supplier Part Number 1: VESD01C1-02VHG3-08GICT-ND; Supplier Device Package: SOD-523
footprint SOD523F
pins: 1, 2

## VESD03-02V-G-08
designator D?
TVS DIODE 3V 12V SOD523; Manufacturer: Vishay Semiconductor Diodes Division; Capacitance @ Frequency: 110pF @ 1MHz; Current - Peak Pulse (10/1000µs): 9A (8/20µs); Power Line Protection: No; Power - Peak Pulse: 108W; Type: Zener; Unidirectional Channels: 1; Voltage - Breakdown (Min): 4V; Voltage - Clamping (Max) @ Ipp: 12V (Typ); Voltage - Reverse Standoff (Typ): 3V (Max); Part Number: VESD03-02V-G-08; Applications: General Purpose; ComponentLink1Description: Datasheet; ComponentLink1URL: https://www.vishay.com/docs/83367/vesdxx02v.pdf; ComponentLink2Description: DigiKey Link; ComponentLink2URL: http://digikey.com/product-detail/en/vishay-semiconductor-diodes-division/VESD03-02V-G-08/VESD03-02V-G-08CT-ND/2658774; LastUpdated: 9/2/2020 1:28:24 AM; Lifecycle Status: Active; Minimum Order: 1; Mounting Type: Surface Mount; Operating Temperature: -40°C ~ 125°C (TJ); Package / Case: SC-79, SOD-523; Packaging: TapeAndReel; PartId: 9749; Part Status: Active; Price: 0.08; Series: -; Supplier 1: DigiKey; Supplier Part Number 1: VESD03-02V-G-08CT-ND; Supplier Device Package: SOD-523
footprint SOD523F
pins: 1, 2

## VESD03C1-02V-G3-08
designator D?
ESD PROTECTION DIODE SOD-523; Manufacturer: Vishay Semiconductor Diodes Division; Capacitance @ Frequency: 112pF @ 1MHz; Current - Peak Pulse (10/1000µs): 11.6A (8/20µs); Power Line Protection: No; Power - Peak Pulse: 100W; Type: Zener; Unidirectional Channels: 1; Voltage - Breakdown (Min): 4.4V; Voltage - Clamping (Max) @ Ipp: 8.7V; Voltage - Reverse Standoff (Typ): 3V (Max); Part Number: VESD03C1-02V-G3-08; Applications: Automotive; ComponentLink1Description: Datasheet; ComponentLink1URL: http://www.vishay.com/docs/86130/vesd01c1-02vtovesd33c1-02v.pdf; ComponentLink2Description: DigiKey Link; ComponentLink2URL: http://digikey.com/product-detail/en/vishay-semiconductor-diodes-division/VESD03C1-02V-G3-08/VESD03C1-02V-G3-08GICT-ND/9948015; LastUpdated: 9/2/2020 1:28:23 AM; Lifecycle Status: Active; Minimum Order: 1; Mounting Type: Surface Mount; Operating Temperature: -55°C ~ 150°C (TJ); Package / Case: SC-79, SOD-523; Packaging: TapeAndReel; PartId: 9725; Part Status: Active; Price: 0.06; Series: Automotive, AEC-Q101; Supplier 1: DigiKey; Supplier Part Number 1: VESD03C1-02V-G3-08GICT-ND; Supplier Device Package: SOD-523
footprint SOD523F
pins: 1, 2

## VESD03C1-02VHG3-08
designator D?
ESD PROTECTION DIODE SOD-523; Manufacturer: Vishay Semiconductor Diodes Division; Capacitance @ Frequency: 112pF @ 1MHz; Current - Peak Pulse (10/1000µs): 11.6A (8/20µs); Power Line Protection: No; Power - Peak Pulse: 100W; Type: Zener; Unidirectional Channels: 1; Voltage - Breakdown (Min): 4.4V; Voltage - Clamping (Max) @ Ipp: 8.7V; Voltage - Reverse Standoff (Typ): 3V (Max); Part Number: VESD03C1-02VHG3-08; Applications: Automotive; ComponentLink1Description: Datasheet; ComponentLink1URL: http://www.vishay.com/docs/86130/vesd01c1-02vtovesd33c1-02v.pdf; ComponentLink2Description: DigiKey Link; ComponentLink2URL: http://digikey.com/product-detail/en/vishay-semiconductor-diodes-division/VESD03C1-02VHG3-08/VESD03C1-02VHG3-08GICT-ND/9948025; LastUpdated: 9/2/2020 1:28:24 AM; Lifecycle Status: Active; Minimum Order: 1; Mounting Type: Surface Mount; Operating Temperature: -55°C ~ 150°C (TJ); Package / Case: SC-79, SOD-523; Packaging: TapeAndReel; PartId: 9800; Part Status: Active; Price: 0.06; Series: Automotive, AEC-Q101; Supplier 1: DigiKey; Supplier Part Number 1: VESD03C1-02VHG3-08GICT-ND; Supplier Device Package: SOD-523
footprint SOD523F
pins: 1, 2

## VESD05-02V-G-08
designator D?
TVS DIODE 5V 20V SOD523; Manufacturer: Vishay Semiconductor Diodes Division; Capacitance @ Frequency: 55pF @ 1MHz; Current - Peak Pulse (10/1000µs): 6A (8/20µs); Power Line Protection: No; Power - Peak Pulse: 120W; Type: Zener; Unidirectional Channels: 1; Voltage - Breakdown (Min): 6.5V; Voltage - Clamping (Max) @ Ipp: 20V (Typ); Voltage - Reverse Standoff (Typ): 5V (Max); Part Number: VESD05-02V-G-08; Applications: General Purpose; ComponentLink1Description: Datasheet; ComponentLink1URL: https://www.vishay.com/docs/83367/vesdxx02v.pdf; ComponentLink2Description: DigiKey Link; ComponentLink2URL: http://digikey.com/product-detail/en/vishay-semiconductor-diodes-division/VESD05-02V-G-08/VESD05-02V-G-08CT-ND/2658773; LastUpdated: 9/2/2020 1:28:24 AM; Lifecycle Status: Active; Minimum Order: 1; Mounting Type: Surface Mount; Operating Temperature: -40°C ~ 125°C (TJ); Package / Case: SC-79, SOD-523; Packaging: TapeAndReel; PartId: 9771; Part Status: Active; Price: 0.08; Series: -; Supplier 1: DigiKey; Supplier Part Number 1: VESD05-02V-G-08CT-ND; Supplier Device Package: SOD-523
footprint SOD523F
pins: 1, 2

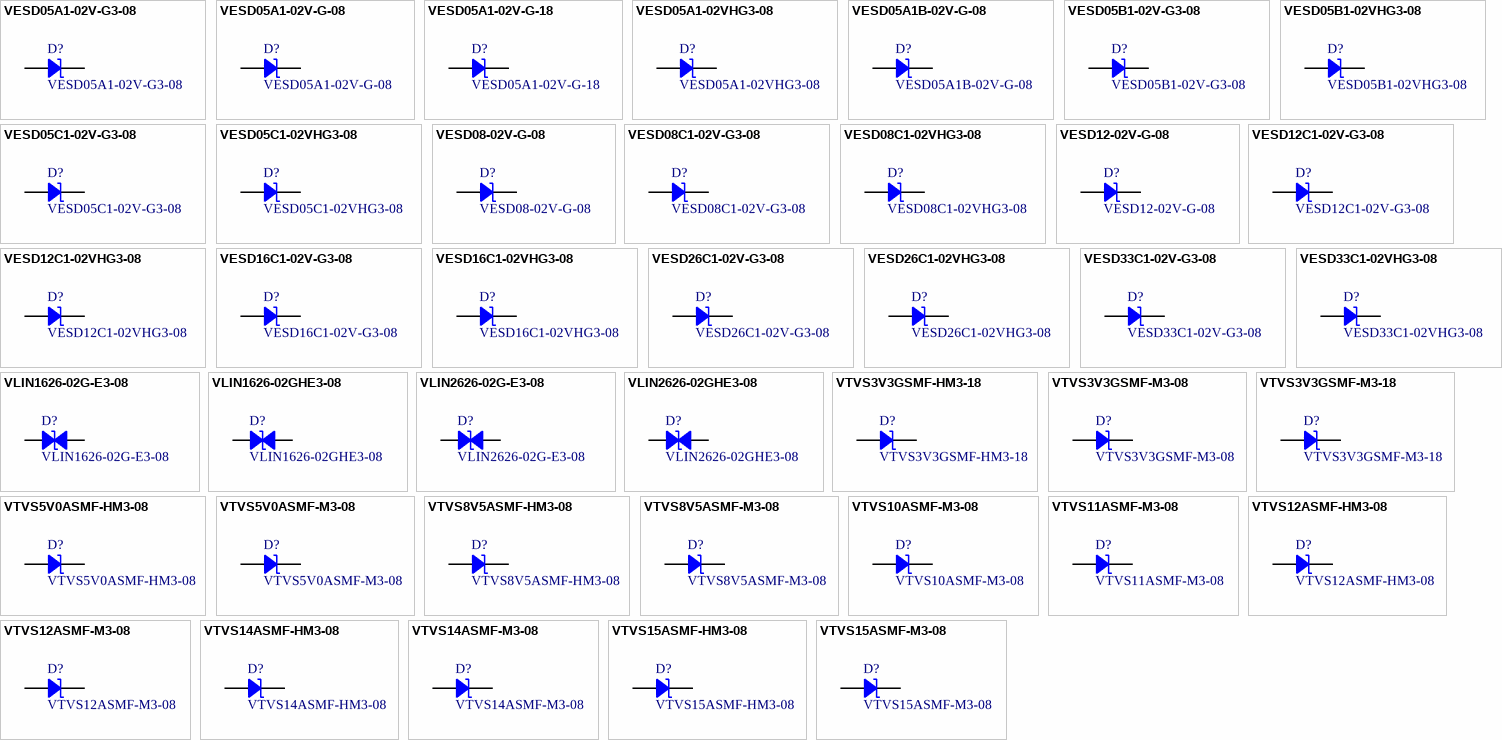
[diagram p133: symbols VESD05A1-02V-G3-08 to VTVS15ASMF-M3-08]

## VESD05A1-02V-G3-08
designator D?
ESD PROTECTION DIODE SOD-523; Manufacturer: Vishay Semiconductor Diodes Division; Capacitance @ Frequency: 130pF @ 1MHz; Current - Peak Pulse (10/1000µs): 16A (8/20µs); Power Line Protection: No; Power - Peak Pulse: 192W; Type: Zener; Unidirectional Channels: 1; Voltage - Breakdown (Min): 6V; Voltage - Clamping (Max) @ Ipp: 12V; Voltage - Reverse Standoff (Typ): 5V (Max); Part Number: VESD05A1-02V-G3-08; Applications: Automotive; ComponentLink1Description: Datasheet; ComponentLink1URL: http://www.vishay.com/docs/83369/vesd05a1.pdf; ComponentLink2Description: DigiKey Link; ComponentLink2URL: http://digikey.com/product-detail/en/vishay-semiconductor-diodes-division/VESD05A1-02V-G3-08/VESD05A1-02V-G3-08GICT-ND/9948022; LastUpdated: 9/2/2020 1:28:23 AM; Lifecycle Status: Active; Minimum Order: 1; Mounting Type: Surface Mount; Operating Temperature: -55°C ~ 150°C (TJ); Package / Case: SC-79, SOD-523; Packaging: TapeAndReel; PartId: 9721; Part Status: Active; Price: 0.06; Series: Automotive, AEC-Q101; Supplier 1: DigiKey; Supplier Part Number 1: VESD05A1-02V-G3-08GICT-ND; Supplier Device Package: SOD-523
footprint SOD523F
pins: 1, 2

## VESD05A1-02V-G-08
designator D?
TVS DIODE 5V 12V SOD523; Manufacturer: Vishay Semiconductor Diodes Division; Capacitance @ Frequency: 130pF @ 1MHz; Current - Peak Pulse (10/1000µs): 16A (8/20µs); Power Line Protection: No; Power - Peak Pulse: 192W; Type: Zener; Unidirectional Channels: 1; Voltage - Breakdown (Min): 6V; Voltage - Reverse Standoff (Typ): 5V (Max); Part Number: VESD05A1-02V-G-08; Applications: General Purpose; ComponentLink1Description: Datasheet; ComponentLink1URL: http://www.vishay.com/docs/83369/vesd05a1.pdf; ComponentLink2Description: DigiKey Link; ComponentLink2URL: http://digikey.com/product-detail/en/vishay-semiconductor-diodes-division/VESD05A1-02V-G-08/VESD05A1-02V-G-08CT-ND/2658779; LastUpdated: 9/2/2020 1:28:24 AM; Lifecycle Status: Active; Minimum Order: 1; Mounting Type: Surface Mount; Operating Temperature: -40°C ~ 125°C (TJ); Package / Case: SC-79, SOD-523; Packaging: TapeAndReel; PartId: 9747; Part Status: Active; Price: 0.08; Series: -; Supplier 1: DigiKey; Supplier Part Number 1: VESD05A1-02V-G-08CT-ND; Supplier Device Package: SOD-523; Voltage - Clamping (Max) @ Ipp: 12V
footprint SOD523F
pins: 1, 2

## VESD05A1-02V-G-18
designator D?
TVS DIODE 5V 12V SOD523; Manufacturer: Vishay Semiconductor Diodes Division; Capacitance @ Frequency: 130pF @ 1MHz; Current - Peak Pulse (10/1000µs): 16A (8/20µs); Power Line Protection: No; Power - Peak Pulse: 192W; Type: Zener; Unidirectional Channels: 1; Voltage - Breakdown (Min): 6V; Voltage - Reverse Standoff (Typ): 5V (Max); Part Number: VESD05A1-02V-G-18; Applications: General Purpose; ComponentLink1Description: Datasheet; ComponentLink1URL: http://www.vishay.com/docs/83369/vesd05a1.pdf; ComponentLink2Description: DigiKey Link; ComponentLink2URL: http://digikey.com/product-detail/en/vishay-semiconductor-diodes-division/VESD05A1-02V-G-18/VESD05A1-02V-G-18GICT-ND/9601398; LastUpdated: 9/2/2020 1:28:24 AM; Lifecycle Status: Active; Minimum Order: 1; Mounting Type: Surface Mount; Operating Temperature: -40°C ~ 125°C (TJ); Package / Case: SC-79, SOD-523; Packaging: TapeAndReel; PartId: 9741; Part Status: Active; Price: 0.07; Series: -; Supplier 1: DigiKey; Supplier Part Number 1: VESD05A1-02V-G-18GICT-ND; Supplier Device Package: SOD-523; Voltage - Clamping (Max) @ Ipp: 12V
footprint SOD523F
pins: 1, 2

## VESD05A1-02VHG3-08
designator D?
ESD PROTECTION DIODE SOD-523; Manufacturer: Vishay Semiconductor Diodes Division; Capacitance @ Frequency: 130pF @ 1MHz; Current - Peak Pulse (10/1000µs): 16A (8/20µs); Power Line Protection: No; Power - Peak Pulse: 192W; Type: Zener; Unidirectional Channels: 1; Voltage - Breakdown (Min): 6V; Voltage - Clamping (Max) @ Ipp: 12V; Voltage - Reverse Standoff (Typ): 5V (Max); Part Number: VESD05A1-02VHG3-08; Applications: Automotive; ComponentLink1Description: Datasheet; ComponentLink1URL: http://www.vishay.com/docs/83369/vesd05a1.pdf; ComponentLink2Description: DigiKey Link; ComponentLink2URL: http://digikey.com/product-detail/en/vishay-semiconductor-diodes-division/VESD05A1-02VHG3-08/VESD05A1-02VHG3-08GICT-ND/9948032; LastUpdated: 9/2/2020 1:28:24 AM; Lifecycle Status: Active; Minimum Order: 1; Mounting Type: Surface Mount; Operating Temperature: -55°C ~ 150°C (TJ); Package / Case: SC-79, SOD-523; Packaging: TapeAndReel; PartId: 9765; Part Status: Active; Price: 0.06; Series: Automotive, AEC-Q101; Supplier 1: DigiKey; Supplier Part Number 1: VESD05A1-02VHG3-08GICT-ND; Supplier Device Package: SOD-523
footprint SOD523F
pins: 1, 2

## VESD05A1B-02V-G-08
designator D?
TVS DIODE 5V 11V SOD523; Manufacturer: Vishay Semiconductor Diodes Division; Capacitance @ Frequency: 19pF @ 1MHz; Current - Peak Pulse (10/1000µs): 3A (8/20µs); Power Line Protection: No; Power - Peak Pulse: 33W; Type: Zener; Unidirectional Channels: 1; Voltage - Breakdown (Min): 6V; Voltage - Reverse Standoff (Typ): 5V (Max); Part Number: VESD05A1B-02V-G-08; Applications: General Purpose; ComponentLink1Description: Datasheet; ComponentLink1URL: http://www.vishay.com/docs/83368/vesd05a1.pdf; ComponentLink2Description: DigiKey Link; ComponentLink2URL: http://digikey.com/product-detail/en/vishay-semiconductor-diodes-division/VESD05A1B-02V-G-08/VESD05A1B-02V-G-08CT-ND/2658772; LastUpdated: 9/2/2020 1:28:24 AM; Lifecycle Status: Active; Minimum Order: 1; Mounting Type: Surface Mount; Operating Temperature: -40°C ~ 125°C (TJ); Package / Case: SC-79, SOD-523; Packaging: TapeAndReel; PartId: 9763; Part Status: Active; Price: 0.10; Series: -; Supplier 1: DigiKey; Supplier Part Number 1: VESD05A1B-02V-G-08CT-ND; Supplier Device Package: SOD-523; Voltage - Clamping (Max) @ Ipp: 11V
footprint SOD523F
pins: 1, 2

## VESD05B1-02V-G3-08
designator D?
ESD PROTECTION DIODE SOD-523; Manufacturer: Vishay Semiconductor Diodes Division; Capacitance @ Frequency: 23pF @ 1MHz; Current - Peak Pulse (10/1000µs): 3.5A (8/20µs); Power Line Protection: No; Power - Peak Pulse: 40W; Type: Zener; Unidirectional Channels: 1; Voltage - Breakdown (Min): 6V; Voltage - Clamping (Max) @ Ipp: 9.5V; Voltage - Reverse Standoff (Typ): 5V (Max); Part Number: VESD05B1-02V-G3-08; Applications: Automotive; ComponentLink1Description: Datasheet; ComponentLink1URL: http://www.vishay.com/docs/86124/vesd05b1-02v.pdf; ComponentLink2Description: DigiKey Link; ComponentLink2URL: http://digikey.com/product-detail/en/vishay-semiconductor-diodes-division/VESD05B1-02V-G3-08/VESD05B1-02V-G3-08GICT-ND/9948023; LastUpdated: 9/2/2020 1:28:23 AM; Lifecycle Status: Active; Minimum Order: 1; Mounting Type: Surface Mount; Operating Temperature: -55°C ~ 150°C (TJ); Package / Case: SC-79, SOD-523; Packaging: TapeAndReel; PartId: 9727; Part Status: Active; Price: 0.06; Series: Automotive, AEC-Q101; Supplier 1: DigiKey; Supplier Part Number 1: VESD05B1-02V-G3-08GICT-ND; Supplier Device Package: SOD-523
footprint SOD523F
pins: 1, 2

## VESD05B1-02VHG3-08
designator D?
ESD PROTECTION DIODE SOD-523; Manufacturer: Vishay Semiconductor Diodes Division; Capacitance @ Frequency: 23pF @ 1MHz; Current - Peak Pulse (10/1000µs): 3.5A (8/20µs); Power Line Protection: No; Power - Peak Pulse: 40W; Type: Zener; Unidirectional Channels: 1; Voltage - Breakdown (Min): 6V; Voltage - Clamping (Max) @ Ipp: 9.5V; Voltage - Reverse Standoff (Typ): 5V (Max); Part Number: VESD05B1-02VHG3-08; Applications: Automotive; ComponentLink1Description: Datasheet; ComponentLink1URL: http://www.vishay.com/docs/86124/vesd05b1-02v.pdf; ComponentLink2Description: DigiKey Link; ComponentLink2URL: http://digikey.com/product-detail/en/vishay-semiconductor-diodes-division/VESD05B1-02VHG3-08/VESD05B1-02VHG3-08GICT-ND/9948033; LastUpdated: 9/2/2020 1:28:23 AM; Lifecycle Status: Active; Minimum Order: 1; Mounting Type: Surface Mount; Operating Temperature: -55°C ~ 150°C (TJ); Package / Case: SC-79, SOD-523; Packaging: TapeAndReel; PartId: 9723; Part Status: Active; Price: 0.06; Series: Automotive, AEC-Q101; Supplier 1: DigiKey; Supplier Part Number 1: VESD05B1-02VHG3-08GICT-ND; Supplier Device Package: SOD-523
footprint SOD523F
pins: 1, 2

## VESD05C1-02V-G3-08
designator D?
ESD PROTECTION DIODE SOD-523; Manufacturer: Vishay Semiconductor Diodes Division; Capacitance @ Frequency: 67pF @ 1MHz; Current - Peak Pulse (10/1000µs): 8.7A (8/20µs); Power Line Protection: No; Power - Peak Pulse: 100W; Type: Zener; Unidirectional Channels: 1; Voltage - Breakdown (Min): 6.85V; Voltage - Clamping (Max) @ Ipp: 11.5V; Voltage - Reverse Standoff (Typ): 5V (Max); Part Number: VESD05C1-02V-G3-08; Applications: Automotive; ComponentLink1Description: Datasheet; ComponentLink1URL: http://www.vishay.com/docs/86130/vesd01c1-02vtovesd33c1-02v.pdf; ComponentLink2Description: DigiKey Link; ComponentLink2URL: http://digikey.com/product-detail/en/vishay-semiconductor-diodes-division/VESD05C1-02V-G3-08/VESD05C1-02V-G3-08GICT-ND/9948016; LastUpdated: 9/2/2020 1:28:24 AM; Lifecycle Status: Active; Minimum Order: 1; Mounting Type: Surface Mount; Operating Temperature: -55°C ~ 150°C (TJ); Package / Case: SC-79, SOD-523; Packaging: TapeAndReel; PartId: 9788; Part Status: Active; Price: 0.06; Series: Automotive, AEC-Q101; Supplier 1: DigiKey; Supplier Part Number 1: VESD05C1-02V-G3-08GICT-ND; Supplier Device Package: SOD-523
footprint SOD523F
pins: 1, 2

## VESD05C1-02VHG3-08
designator D?
ESD PROTECTION DIODE SOD-523; Manufacturer: Vishay Semiconductor Diodes Division; Capacitance @ Frequency: 67pF @ 1MHz; Current - Peak Pulse (10/1000µs): 8.7A (8/20µs); Power Line Protection: No; Power - Peak Pulse: 100W; Type: Zener; Unidirectional Channels: 1; Voltage - Breakdown (Min): 6.85V; Voltage - Clamping (Max) @ Ipp: 11.5V; Voltage - Reverse Standoff (Typ): 5V (Max); Part Number: VESD05C1-02VHG3-08; Applications: Automotive; ComponentLink1Description: Datasheet; ComponentLink1URL: http://www.vishay.com/docs/86130/vesd01c1-02vtovesd33c1-02v.pdf; ComponentLink2Description: DigiKey Link; ComponentLink2URL: http://digikey.com/product-detail/en/vishay-semiconductor-diodes-division/VESD05C1-02VHG3-08/VESD05C1-02VHG3-08GICT-ND/9948026; LastUpdated: 9/2/2020 1:28:24 AM; Lifecycle Status: Active; Minimum Order: 1; Mounting Type: Surface Mount; Operating Temperature: -55°C ~ 150°C (TJ); Package / Case: SC-79, SOD-523; Packaging: TapeAndReel; PartId: 9739; Part Status: Active; Price: 0.06; Series: Automotive, AEC-Q101; Supplier 1: DigiKey; Supplier Part Number 1: VESD05C1-02VHG3-08GICT-ND; Supplier Device Package: SOD-523
footprint SOD523F
pins: 1, 2